# Altium schematic symbol library SMD_IC_SY6280AAC.SchLib: 1 symbol
Pins are listed as number, name and electrical type; pins without a type are passive.

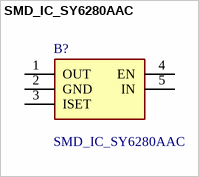
[diagram p0: symbol SMD_IC_SY6280AAC]

## SMD_IC_SY6280AAC
designator B?
Power Switch ICs - Power Distribution; Manufacturer_Name: Olimex Ltd.; Manufacturer_Part_Number: SMD IC SY6280AAC; Geometry.Height: 1.4mm; Mouser Part Number: 909-SMDICSY6280AAC; Mouser Price/Stock: https://www.mouser.co.uk/ProductDetail/Olimex-Ltd/SMD-IC-SY6280AAC?qs=9vOqFld9vZUuwGiRcx8i5w%3D%3D; Datasheet Link: *
footprint SOT95P285X140-5N
pins: 1 OUT, 2 GND, 3 ISET, 4 EN, 5 IN